# Altium integrated library linear-technology.IntLib: 60 symbols
Pins are listed as number, name and electrical type; pins without a type are passive.

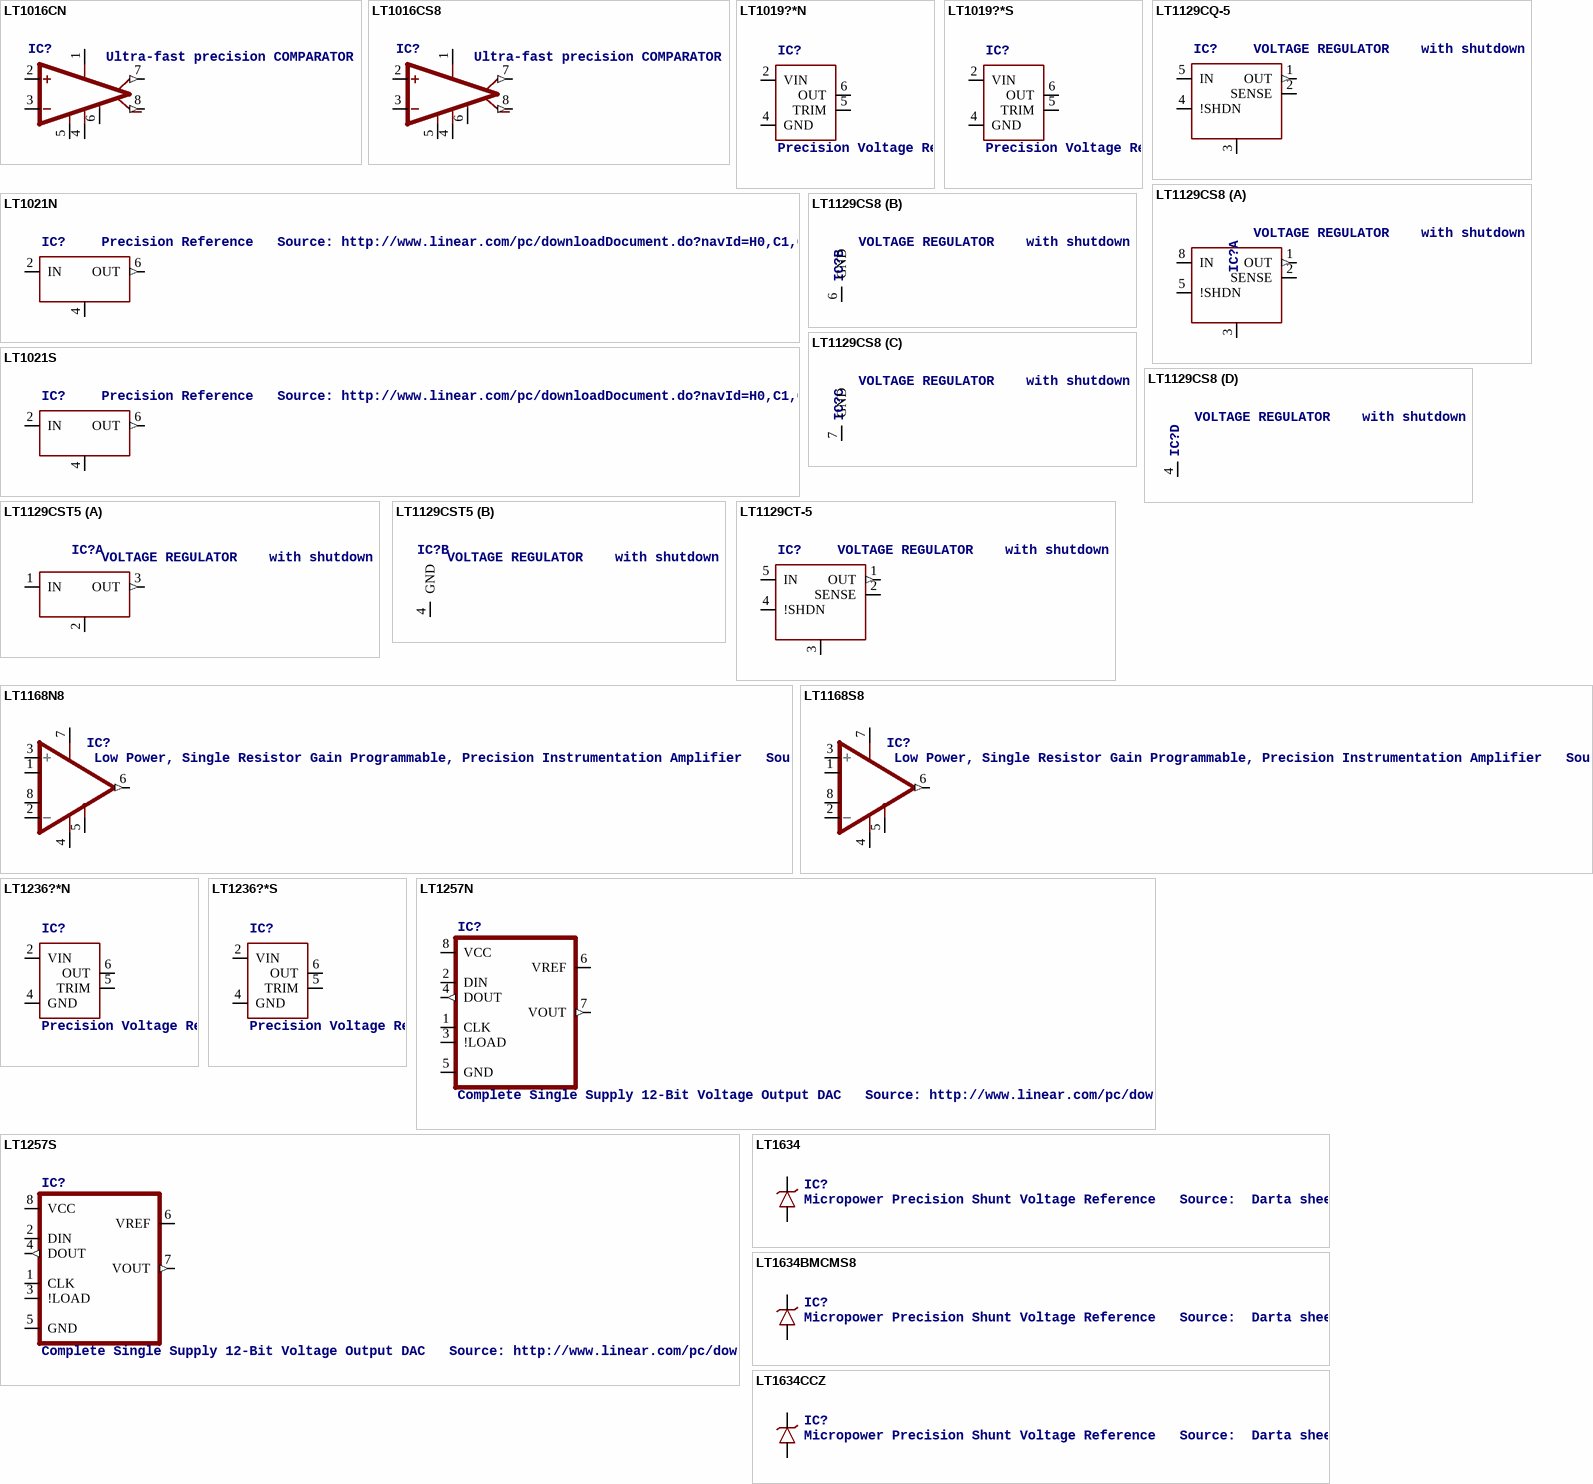
[diagram p0: symbols LT1016CN to LT1634CCZ]

## LT1016CN
designator IC?, comment Ultra-fast precision COMPARATOR
MPN: LT1016CN8; OC_FARNELL: 9559353; OC_NEWARK: 57M0852
footprint DIL08
pins: 1 V+ (power), 2 +IN, 3 -IN, 4 V- (power), 5 LA_EN, 6 GND (power), 7 OUT (out), 8 !OUT (out)

## LT1016CS8
designator IC?, comment Ultra-fast precision COMPARATOR
MPN: LT1016CS8; OC_FARNELL: 796293; OC_NEWARK: 57M0854
footprint SOIC8
pins: 1 V+ (power), 2 +IN, 3 -IN, 4 V- (power), 5 LA_EN, 6 GND (power), 7 OUT (out), 8 !OUT (out)

## LT1019?*N
designator IC?, comment Precision Voltage Reference   Source: http://www.linear.com/pc/downloadDocument.do?navId=H0,C1,C1154,C1002,C1243,P1130,D3834
MPN: LT1019CN8-5; OC_FARNELL: 4767007; OC_NEWARK: 16M4947
footprint DIL08
pins: 2 VIN, 4 GND (power), 5 TRIM, 6 OUT

## LT1019?*S
designator IC?, comment Precision Voltage Reference   Source: http://www.linear.com/pc/downloadDocument.do?navId=H0,C1,C1154,C1002,C1243,P1130,D3834
MPN: LT1019CS8-10#PBF; MPN: LT1019CS8-2.5#PBF; MPN: LT1019CS8-4.5#PBF; MPN: LT1019CS8-5#PBF; OC_FARNELL: 1556428; OC_NEWARK: 57M0925; OC_FARNELL: 9559426; OC_NEWARK: 57M0929; OC_FARNELL: 1627481; OC_NEWARK: 57M0933; OC_FARNELL: 1273426; OC_NEWARK: 57M0937
footprint SOIC8
pins: 2 VIN, 4 GND (power), 5 TRIM, 6 OUT

## LT1021N
designator IC?, comment Precision Reference   Source: http://www.linear.com/pc/downloadDocument.do?navId=H0,C1,C1010,C1603,P1229,D2805
MPN: LT1021BCN8-5#PBF; OC_FARNELL: 1273427; OC_NEWARK: 24M3927
footprint DIL08
pins: 2 IN, 4 GND (power), 6 OUT (out)

## LT1021S
designator IC?, comment Precision Reference   Source: http://www.linear.com/pc/downloadDocument.do?navId=H0,C1,C1010,C1603,P1229,D2805
MPN: LT1021DCS8-10#PBF; OC_FARNELL: 1273428; OC_NEWARK: 57M0993
footprint SOIC8
pins: 2 IN, 4 GND (power), 6 OUT (out)

## LT1129CQ-5
designator IC?, comment VOLTAGE REGULATOR    with shutdown
MPN: LT1129CQ-5#PBF; OC_FARNELL: 1663373; OC_NEWARK: 57M2058
footprint Q5-DD
pins: 1 OUT (out), 2 SENSE, 3 GND (power), 4 !SHDN, 5 IN

## LT1129CS8
designator IC?, comment VOLTAGE REGULATOR    with shutdown
MPN: LT1129CS8-5#PBF; OC_FARNELL: 1273576; OC_NEWARK: 57M2078
footprint SOIC8
part A pins: 1 OUT (out), 2 SENSE, 3 GND (power), 5 !SHDN, 8 IN
part B pins: 6 GND (power)
part C pins: 7 GND (power)
part D pins: 4 NC

## LT1129CST5
designator IC?, comment VOLTAGE REGULATOR    with shutdown
MPN: LT1129CST-5#PBF; OC_FARNELL: 1663375; OC_NEWARK: 57M2069
footprint SOT223
part A pins: 1 IN, 2 GND (power), 3 OUT (out)
part B pins: 4 GND (power)

## LT1129CT-5
designator IC?, comment VOLTAGE REGULATOR    with shutdown
MPN: LT1129CT-5#PBF; OC_FARNELL: 9560106; OC_NEWARK: 57M2088
footprint TO220-5
pins: 1 OUT (out), 2 SENSE, 3 GND (power), 4 !SHDN, 5 IN

## LT1168N8
designator IC?, comment Low Power, Single Resistor Gain Programmable, Precision Instrumentation Amplifier   SourcE: LT1168.pdf
MPN: LT1168CN8#PBF; MPN: LT1168IN8; OC_FARNELL: unknown; OC_NEWARK: unknown; OC_FARNELL: 1330587; OC_NEWARK: 57M2327; OC_NEWARK: 57M2332
footprint DIL08
pins: 1 RG@1, 2 -IN, 3 +IN, 4 V- (power), 5 REF, 6 OUT (out), 7 V+ (power), 8 RG@2

## LT1168S8
designator IC?, comment Low Power, Single Resistor Gain Programmable, Precision Instrumentation Amplifier   SourcE: LT1168.pdf
MPN: LT1168ACS8; MPN: LT1168AIS8; MPN: LT1168CS8; MPN: LT1168IS8; OC_FARNELL: unknown; OC_NEWARK: 57M2316; OC_NEWARK: 57M2322; OC_NEWARK: 57M2328; OC_NEWARK: 57M2334
footprint SOIC8
pins: 1 RG@1, 2 -IN, 3 +IN, 4 V- (power), 5 REF, 6 OUT (out), 7 V+ (power), 8 RG@2

## LT1236?*N
designator IC?, comment Precision Voltage Reference   Source: http://www.linear.com/pc/downloadDocument.do?navId=H0,C1,C1154,C1002,C1243,P1156,D2948
OC_FARNELL: unknown; OC_NEWARK: unknown
footprint DIL08
pins: 2 VIN, 4 GND (power), 5 TRIM, 6 OUT

## LT1236?*S
designator IC?, comment Precision Voltage Reference   Source: http://www.linear.com/pc/downloadDocument.do?navId=H0,C1,C1154,C1002,C1243,P1156,D2948
OC_FARNELL: unknown; OC_NEWARK: unknown
footprint SOIC8
pins: 2 VIN, 4 GND (power), 5 TRIM, 6 OUT

## LT1257N
designator IC?, comment Complete Single Supply 12-Bit Voltage Output DAC   Source: http://www.linear.com/pc/downloadDocument.do?navId=H0,C1,C1155,C1005,C1156,P1425,D3414
OC_FARNELL: unknown; OC_NEWARK: unknown
footprint DIL08
pins: 1 CLK, 2 DIN, 3 !LOAD, 4 DOUT (out), 5 GND (power), 6 VREF, 7 VOUT (out), 8 VCC (power)

## LT1257S
designator IC?, comment Complete Single Supply 12-Bit Voltage Output DAC   Source: http://www.linear.com/pc/downloadDocument.do?navId=H0,C1,C1155,C1005,C1156,P1425,D3414
OC_FARNELL: unknown; OC_NEWARK: unknown
footprint SOIC8
pins: 1 CLK, 2 DIN, 3 !LOAD, 4 DOUT (out), 5 GND (power), 6 VREF, 7 VOUT (out), 8 VCC (power)

## LT1634
designator IC?, comment Micropower Precision Shunt Voltage Reference   Source:  Darta sheet
footprint S8
pins: 4 GND, 6 VOUT

## LT1634BMCMS8
designator IC?, comment Micropower Precision Shunt Voltage Reference   Source:  Darta sheet
footprint MSOP8
pins: 4 GND, 6 VOUT

## LT1634CCZ
designator IC?, comment Micropower Precision Shunt Voltage Reference   Source:  Darta sheet
footprint TO92.PAC
pins: 1 GND, 2 VOUT

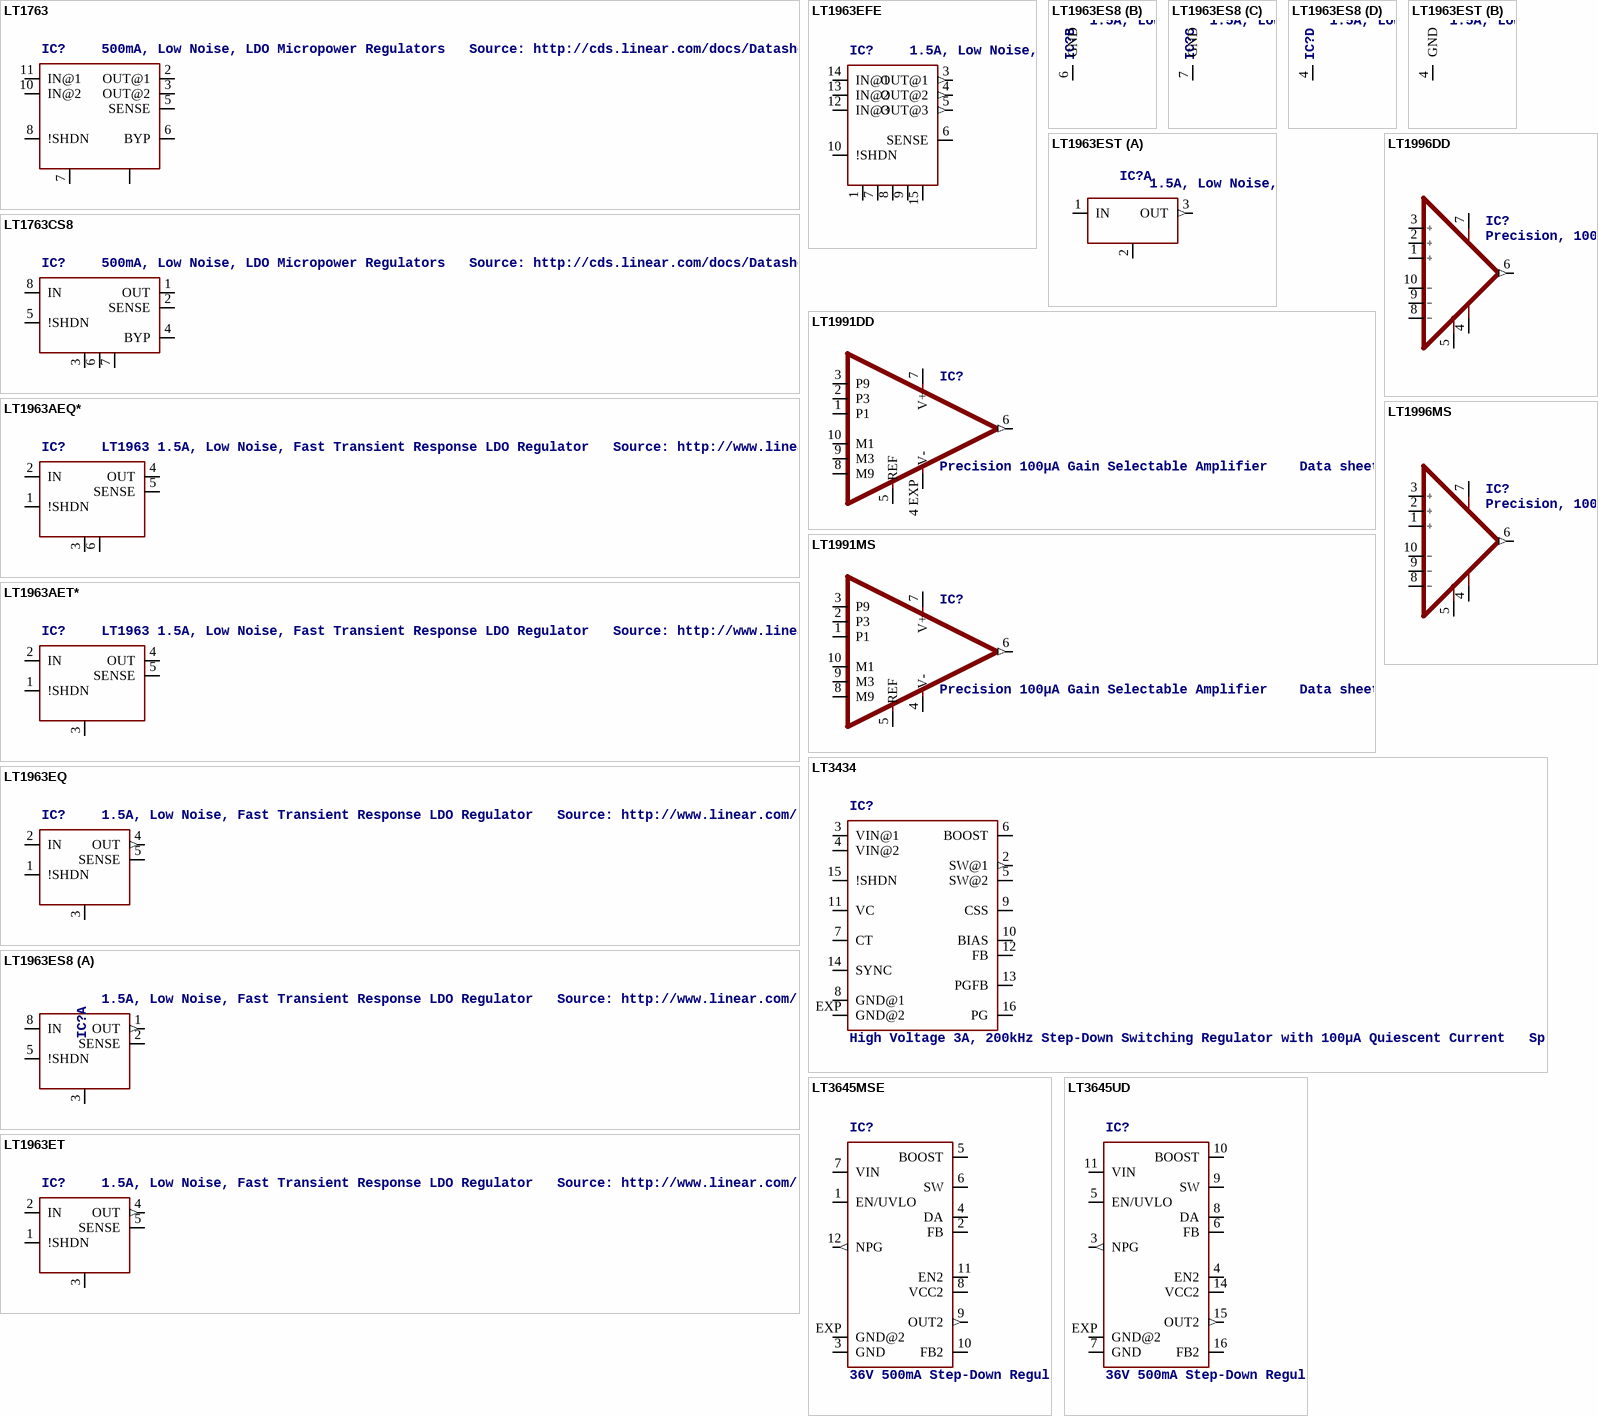
[diagram p1: symbols LT1763 to LT3645UD]

## LT1763
designator IC?, comment 500mA, Low Noise, LDO Micropower Regulators   Source: http://cds.linear.com/docs/Datasheet/1763ff.pdf
MPN: LT1763CDE; MPN: LT1763CDE-1.5; MPN: LT1763CDE-1.8; MPN: LT1763CDE-2.5; MPN: LT1763CDE-3; MPN: LT1763CDE-3.3; MPN: LT1763CDE-5; MPN: LT1763IDE#PBF; MPN: LT1763IDE-1.5#PBF; MPN: LT1763IDE-1.8#PBF; MPN: LT1763IDE-2.5#PBF; MPN: LT1763IDE-3#PBF; MPN: LT1763IDE-3.3#PBF; MPN: LT1763IDE-5#PBF; OC_FARNELL: 1273613; OC_NEWARK: 57M6014; OC_FARNELL: unknown; OC_NEWARK: 57M6015; OC_NEWARK: 57M6019; OC_NEWARK: 57M6023; OC_NEWARK: 57M6027; OC_NEWARK: 57M6028; OC_FARNELL: 1556468; OC_NEWARK: 57M6035; OC_FARNELL: 1839216; OC_NEWARK: 51R1532; OC_FARNELL: 1783317; OC_NEWARK: 51R1526; OC_FARNELL: 1783318; OC_NEWARK: 51R1527; OC_FARNELL: 1783319; OC_NEWARK: 51R1528; OC_FARNELL: 1839220; OC_NEWARK: 51R1530; OC_FARNELL: 1783320; OC_NEWARK: 51R1529; OC_FARNELL: 1839222; OC_NEWARK: 51R1531
footprint DFN12
pins: 2 OUT@1, 3 OUT@2, 5 SENSE, 6 BYP, 7 GND (power), 8 !SHDN, 10 IN@2, 11 IN@1, EXP (power)

## LT1763CS8
designator IC?, comment 500mA, Low Noise, LDO Micropower Regulators   Source: http://cds.linear.com/docs/Datasheet/1763ff.pdf
MPN: LT1763CS8-1.5; MPN: LT1763CS8-1.8; MPN: LT1763CS8-2.5; MPN: LT1763CS8-3; MPN: LT1763CS8-3.3; OC_FARNELL: 1501016; OC_NEWARK: 57M6043; OC_FARNELL: 1273615; OC_NEWARK: 57M6047; OC_FARNELL: 1273616; OC_NEWARK: 57M6051; OC_FARNELL: unknown; OC_NEWARK: 02E0014; OC_FARNELL: 1273617; OC_NEWARK: 57M6055
footprint SOIC8
pins: 1 OUT, 2 SENSE, 3 GND@1 (power), 4 BYP, 5 !SHDN, 6 GND@2 (power), 7 GND@3 (power), 8 IN

## LT1963AEQ*
designator IC?, comment LT1963 1.5A, Low Noise, Fast Transient Response LDO Regulator   Source: http://www.linear.com
MPN: LT1963AEQ; MPN: LT1963AEQ-1.5; MPN: LT1963AEQ-1.8; MPN: LT1963AEQ-2.5; MPN: LT1963AEQ-3.3; OC_FARNELL: 1273625; OC_NEWARK: 57M7427; OC_FARNELL: unknown; OC_NEWARK: 57M7428; OC_FARNELL: 1663522; OC_NEWARK: 57M7432; OC_FARNELL: 1500530; OC_NEWARK: 53K8985; OC_FARNELL: 1273626; OC_NEWARK: 57M7439
footprint Q5-DD
pins: 1 !SHDN, 2 IN, 3 GND (power), 4 OUT, 5 SENSE, 6 GND@1 (power)

## LT1963AET*
designator IC?, comment LT1963 1.5A, Low Noise, Fast Transient Response LDO Regulator   Source: http://www.linear.com
MPN: LT1963AET; MPN: LT1963AET-1.5; MPN: LT1963AET-1.8; MPN: LT1963AET-2.5; MPN: LT1963AET-3.3; OC_FARNELL: 1273631; OC_NEWARK: 57M7482; OC_FARNELL: unknown; OC_NEWARK: 57M7483; OC_FARNELL: 1273633; OC_NEWARK: 57M7485; OC_NEWARK: 57M7487; OC_NEWARK: 57M7490
footprint TO220-5
pins: 1 !SHDN, 2 IN, 3 GND (power), 4 OUT, 5 SENSE

## LT1963EFE
designator IC?, comment 1.5A, Low Noise, Fast Transient Response LDO Regulator   Source: http://cds.linear.com/docs/Datasheet/1963fc.pdf
MPN: LT1963EFE; MPN: LT1963EFE-1.5; MPN: LT1963EFE-1.8; MPN: LT1963EFE-2.5; MPN: LT1963EFE-3.3; OC_FARNELL: unknown; OC_NEWARK: 57M7494; OC_NEWARK: 57M7495; OC_NEWARK: 57M7499; OC_NEWARK: 57M7503; OC_NEWARK: 57M7507
footprint TSSOP16
pins: 1 GND@1 (power), 3 OUT@1 (out), 4 OUT@2 (out), 5 OUT@3 (out), 6 SENSE, 7 GND@2 (power), 8 GND@3 (power), 9 GND@4 (power), 10 !SHDN, 12 IN@3, 13 IN@2, 14 IN@1, 15 GND@5 (power)

## LT1963EQ
designator IC?, comment 1.5A, Low Noise, Fast Transient Response LDO Regulator   Source: http://www.linear.com/pc/downloadDocument.do?navId=H0,C3,P2222,D3148
MPN: LT1963EQ; OC_FARNELL: 1273634; OC_NEWARK: 57M7514; OC_FARNELL: unknown; OC_NEWARK: unknown
footprint Q5-DD
pins: 1 !SHDN, 2 IN, 3 GND (power), 4 OUT (out), 5 SENSE

## LT1963ES8
designator IC?, comment 1.5A, Low Noise, Fast Transient Response LDO Regulator   Source: http://www.linear.com/pc/downloadDocument.do?navId=H0,C3,P2222,D3148
MPN: LT1963ES8; MPN: LT1963ES8-1.5; MPN: LT1963ES8-1.8; MPN: LT1963ES8-2.5; MPN: LT1963ES8-3.3; OC_FARNELL: unknown; OC_NEWARK: 57M7550; OC_NEWARK: 57M7551; OC_NEWARK: 57M7555; OC_NEWARK: 57M7559; OC_NEWARK: 57M7563
footprint SOIC8
part A pins: 1 OUT (out), 2 SENSE, 3 GND (power), 5 !SHDN, 8 IN
part B pins: 6 GND (power)
part C pins: 7 GND (power)
part D pins: 4 NC

## LT1963EST
designator IC?, comment 1.5A, Low Noise, Fast Transient Response LDO Regulator   Source: http://www.linear.com/pc/downloadDocument.do?navId=H0,C3,P2222,D3148
MPN: LT1963EST-1.5; MPN: LT1963EST-1.8; MPN: LT1963EST-2.5; MPN: LT1963EST-3.3; OC_FARNELL: 1663528; OC_NEWARK: 57M7534; OC_FARNELL: 1503436; OC_NEWARK: 57M7538; OC_FARNELL: 1501031; OC_NEWARK: 57M7542; OC_FARNELL: 1501032; OC_NEWARK: 57M7546
footprint SOT223
part A pins: 1 IN, 2 GND (power), 3 OUT (out)
part B pins: 4 GND (power)

## LT1963ET
designator IC?, comment 1.5A, Low Noise, Fast Transient Response LDO Regulator   Source: http://www.linear.com/pc/downloadDocument.do?navId=H0,C3,P2222,D3148
MPN: LT1963ET; OC_FARNELL: unknown; OC_NEWARK: 57M7570; OC_NEWARK: unknown
footprint TO220-5
pins: 1 !SHDN, 2 IN, 3 GND (power), 4 OUT (out), 5 SENSE

## LT1991DD
designator IC?, comment Precision 100μA Gain Selectable Amplifier    Data sheet
footprint DFN10-3X3
pins: 1 P1, 2 P3, 3 P9, 4 EXP V- (power), 5 REF, 6 OUT (out), 7 V+ (power), 8 M9, 9 M3, 10 M1

## LT1991MS
designator IC?, comment Precision 100μA Gain Selectable Amplifier    Data sheet
footprint MSOP10
pins: 1 P1, 2 P3, 3 P9, 4 V- (power), 5 REF, 6 OUT (out), 7 V+ (power), 8 M9, 9 M3, 10 M1

## LT1996DD
designator IC?, comment Precision, 100µA Gain Selectable Amplifier   Difference Amplifier, Gain Range 9 to 117, CMRR >80dB Source: http://www.linear.com
MPN: LT1996ACDD; MPN: LT1996AIDD; MPN: LT1996CDD; MPN: LT1996IDD; OC_FARNELL: unknown; OC_NEWARK: 75M4674; OC_NEWARK: 75M4682; OC_NEWARK: 75M4690; OC_NEWARK: 75M4698
footprint DFN10-3X3
pins: 1 P9, 2 P27, 3 P81, 4 V- (power), 5 REF, 6 OUT (out), 7 V+ (power), 8 M81, 9 M27, 10 M9

## LT1996MS
designator IC?, comment Precision, 100µA Gain Selectable Amplifier   Difference Amplifier, Gain Range 9 to 117, CMRR >80dB Source: http://www.linear.com
MPN: LT1996ACMS; MPN: LT1996AIMS; MPN: LT1996CMS; MPN: LT1996IMS; OC_FARNELL: 1462130; OC_NEWARK: 75M4678; OC_FARNELL: unknown; OC_NEWARK: 75M4686; OC_NEWARK: 75M4694; OC_NEWARK: 75M4702
footprint MSOP10
pins: 1 P9, 2 P27, 3 P81, 4 V- (power), 5 REF, 6 OUT (out), 7 V+ (power), 8 M81, 9 M27, 10 M9

## LT3434
designator IC?, comment High Voltage 3A, 200kHz Step-Down Switching Regulator with 100µA Quiescent Current   Spurce: www.linear.com .. 3434fb.pdf
MPN: LT3434EFE#PBF; OC_FARNELL: 1501035; OC_NEWARK: 57M8118
footprint TSSOP16EXP
pins: 2 SW@1 (out), 3 VIN@1, 4 VIN@2, 5 SW@2, 6 BOOST, 7 CT, 8 GND@1 (power), 9 CSS, 10 BIAS, 11 VC, 12 FB, 13 PGFB, 14 SYNC, 15 !SHDN, 16 PG (oc), EXP GND@2 (power)

## LT3645MSE
designator IC?, comment 36V 500mA Step-Down Regulator and 200mA LDO   Source: http://cds.linear.com/docs/en/datasheet/3645f.pdf
footprint MSOP12
pins: 1 EN/UVLO, 2 FB, 3 GND (power), 4 DA, 5 BOOST, 6 SW (oc), 7 VIN, 8 VCC2, 9 OUT2 (out), 10 FB2, 11 EN2, 12 NPG (out), EXP GND@2 (power)

## LT3645UD
designator IC?, comment 36V 500mA Step-Down Regulator and 200mA LDO   Source: http://cds.linear.com/docs/en/datasheet/3645f.pdf
footprint QFN3X3-6
pins: 3 NPG (out), 4 EN2, 5 EN/UVLO, 6 FB, 7 GND (power), 8 DA, 9 SW (oc), 10 BOOST, 11 VIN, 14 VCC2, 15 OUT2 (out), 16 FB2, EXP GND@2 (power)

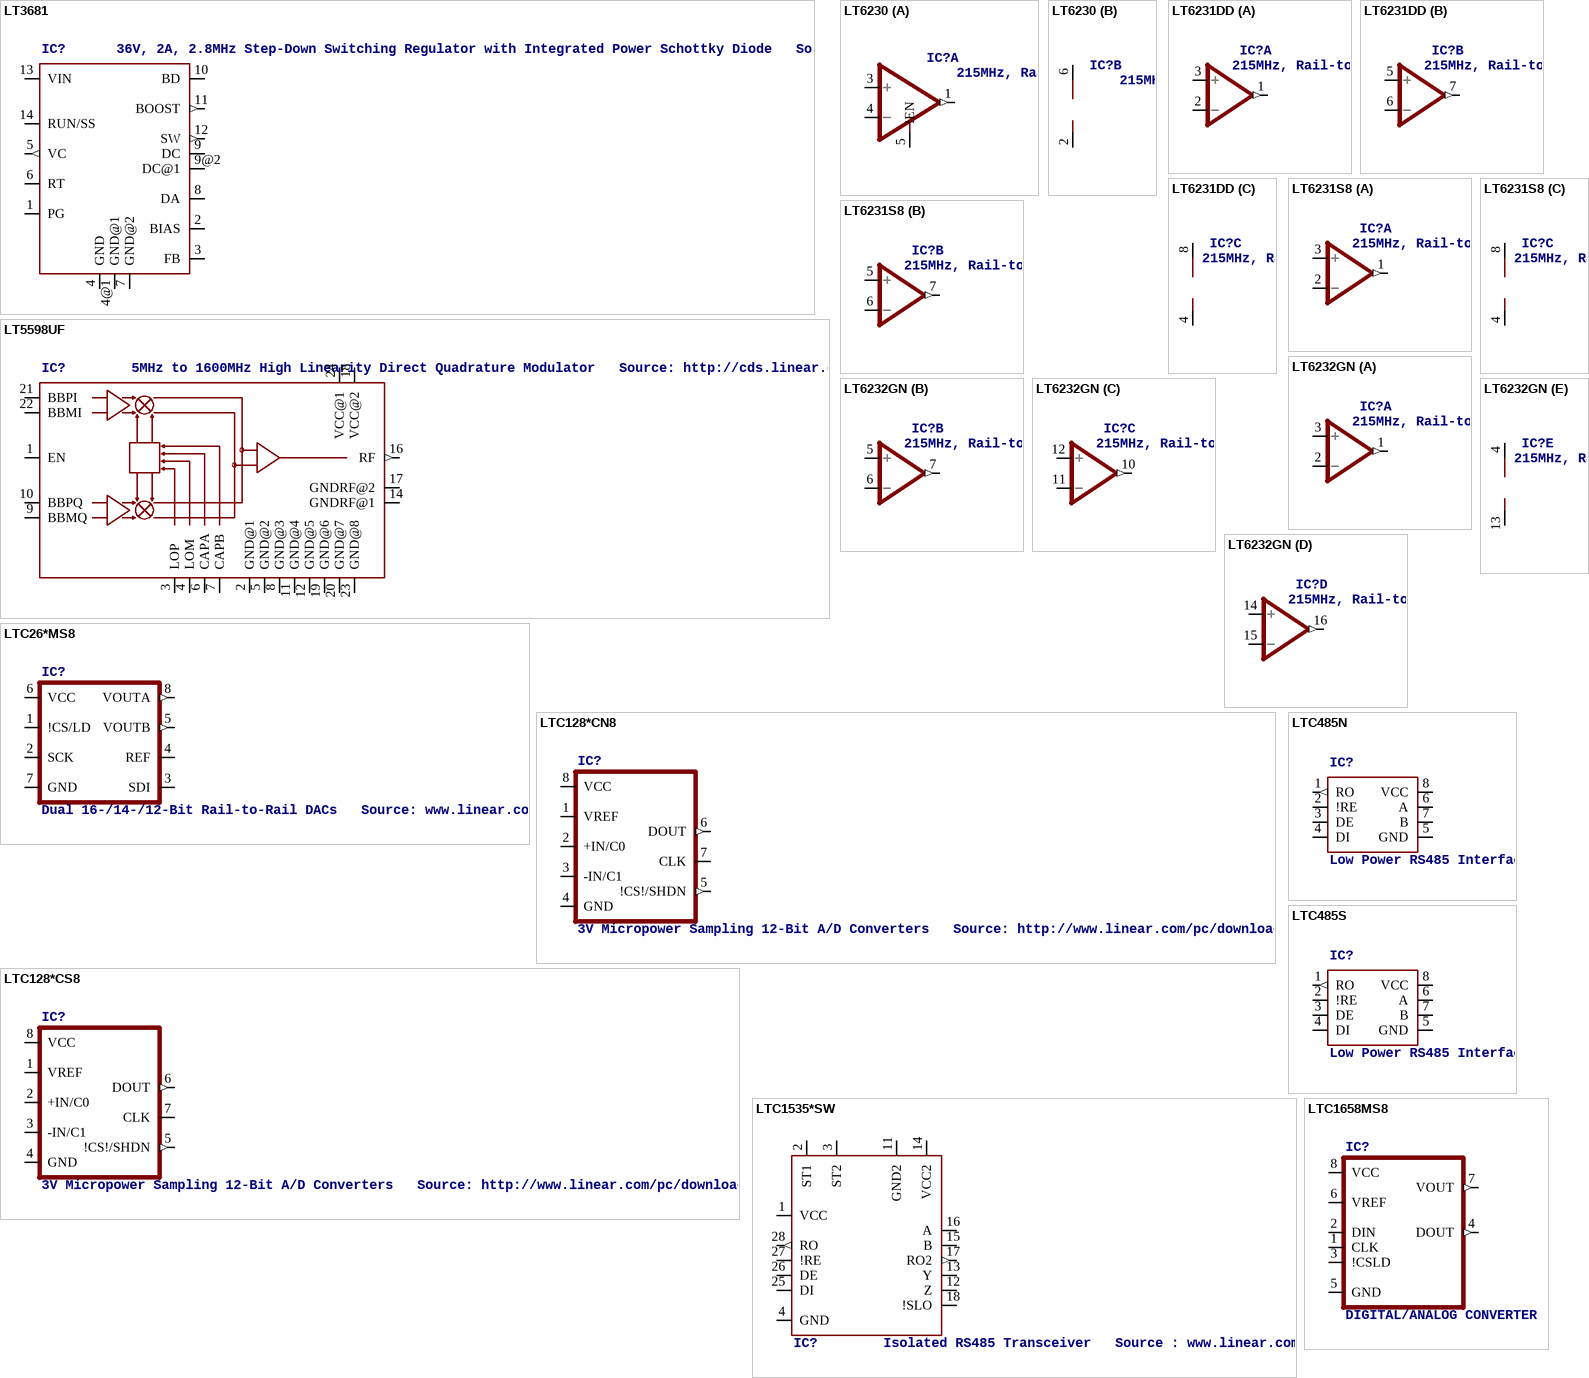
[diagram p2: symbols LT3681 to LTC1658MS8]

## LT3681
designator IC?, comment 36V, 2A, 2.8MHz Step-Down Switching Regulator with Integrated Power Schottky Diode   Source: http://www.linear.com/pc/downloadDocument.do?navId=H0,C1,C1003,C1042,C1032,C1064,P38040,D25144
MPN: LT3681EDE#PBF; OC_FARNELL: 1627603; OC_NEWARK: 57M8550
footprint DFN14-4X3DE
pins: 1 PG (oc), 2 BIAS, 3 FB, 4 GND, 4@1 GND@1, 5 VC (out), 6 RT, 7 GND@2, 8 DA, 9 DC, 9@2 DC@1, 10 BD, 11 BOOST (out), 12 SW (out), 13 VIN, 14 RUN/SS

## LT5598UF
designator IC?, comment 5MHz to 1600MHz High Linearity Direct Quadrature Modulator   Source: http://cds.linear.com/docs/Datasheet/5598f.pdf
OC_FARNELL: unknown; OC_NEWARK: unknown
footprint QFN24-4X4
pins: 1 EN, 2 GND@1 (power), 3 LOP, 4 LOM, 5 GND@2 (power), 6 CAPA, 7 CAPB, 8 GND@3 (power), 9 BBMQ, 10 BBPQ, 11 GND@4 (power), 12 GND@5 (power), 14 GNDRF@1 (power), 16 RF (out), 17 GNDRF@2 (power), 18 VCC@2 (power), 19 GND@6 (power), 20 GND@7 (power), 21 BBPI, 22 BBMI, 23 GND@8 (power), 24 VCC@1 (power)

## LT6230
designator IC?, comment 215MHz, Rail-to-Rail Output, 1.1nV/Hz, 3.5mA Op Amp   Source: http://cds.linear.com/docs/Datasheet/623012fb.pdf
MPN: LT6230CS6#TR; MPN: LT6230CS6-10#TR; MPN: LT6230IS6#TR; MPN: LT6230IS6-10#TR; OC_FARNELL: 1663845; OC_NEWARK: 57M9332; OC_FARNELL: 1663846; OC_NEWARK: 57M9328; OC_FARNELL: unknown; OC_NEWARK: 57M9340; OC_NEWARK: 57M9336
footprint TSOT23-6
part A pins: 1 OUT (out), 3 +IN, 4 -IN, 5 !EN
part B pins: 2 V- (power), 6 V+ (power)

## LT6231DD
designator IC?, comment 215MHz, Rail-to-Rail Output, 1.1nV/Hz, 3.5mA Op Amp   Source: http://cds.linear.com/docs/Datasheet/623012fb.pdf
MPN: LT6231CDD; MPN: LT6231IDD; OC_FARNELL: unknown; OC_NEWARK: 57M9344; OC_NEWARK: 57M9352
footprint DFN8-3X3
part A pins: 1 OUT (out), 2 -IN, 3 +IN
part B pins: 5 +IN, 6 -IN, 7 OUT (out)
part C pins: 4 V- (power), 8 V+ (power)

## LT6231S8
designator IC?, comment 215MHz, Rail-to-Rail Output, 1.1nV/Hz, 3.5mA Op Amp   Source: http://cds.linear.com/docs/Datasheet/623012fb.pdf
MPN: LT6231CS8; MPN: LT6231IS8; OC_FARNELL: 1330763; OC_NEWARK: 57M9348; OC_FARNELL: unknown; OC_NEWARK: 57M9356
footprint S8
part A pins: 1 OUT (out), 2 -IN, 3 +IN
part B pins: 5 +IN, 6 -IN, 7 OUT (out)
part C pins: 4 V- (power), 8 V+ (power)

## LT6232GN
designator IC?, comment 215MHz, Rail-to-Rail Output, 1.1nV/Hz, 3.5mA Op Amp   Source: http://cds.linear.com/docs/Datasheet/623012fb.pdf
MPN: LT6232CGN; MPN: LT6232IGN; OC_FARNELL: unknown; OC_NEWARK: 57M9360; OC_NEWARK: 57M9364
footprint SSOP16
part A pins: 1 OUT (out), 2 -IN, 3 +IN
part B pins: 5 +IN, 6 -IN, 7 OUT (out)
part C pins: 10 OUT (out), 11 -IN, 12 +IN
part D pins: 14 +IN, 15 -IN, 16 OUT (out)
part E pins: 4 V+ (power), 13 V- (power)

## LTC26*MS8
designator IC?, comment Dual 16-/14-/12-Bit Rail-to-Rail DACs   Source: www.linear.com
MPN: LTC2602CMS8; MPN: LTC2602IMS8; MPN: LTC2612CMS8; MPN: LTC2612IMS8; MPN: LTC2622CMS8; MPN: LTC2622IMS8; OC_FARNELL: 1330944; OC_NEWARK: 56M5818; OC_FARNELL: 1663694; OC_NEWARK: 56M5822; OC_FARNELL: 1330947; OC_NEWARK: 56M5926; OC_FARNELL: unknown; OC_NEWARK: 56M5930; OC_FARNELL: 1330954; OC_NEWARK: 56M6034; OC_NEWARK: 56M6038
footprint MSOP8
pins: 1 !CS/LD, 2 SCK, 3 SDI, 4 REF, 5 VOUTB (out), 6 VCC (power), 7 GND (power), 8 VOUTA (out)

## LTC128*CN8
designator IC?, comment 3V Micropower Sampling 12-Bit A/D Converters   Source: http://www.linear.com/pc/downloadDocument.do?navId=H0,C1,C1155,C1001,C1158,P1489,D3463
MPN: LTC1285CN8; MPN: LTC1288CN8; OC_FARNELL: 1330820; OC_NEWARK: 56M0031; OC_FARNELL: 1330821; OC_NEWARK: 56M0057
footprint DIL08
pins: 1 VREF, 2 +IN/C0, 3 -IN/C1, 4 GND (power), 5 !CS!/SHDN (out), 6 DOUT (out), 7 CLK, 8 VCC (power)

## LTC128*CS8
designator IC?, comment 3V Micropower Sampling 12-Bit A/D Converters   Source: http://www.linear.com/pc/downloadDocument.do?navId=H0,C1,C1155,C1001,C1158,P1489,D3463
MPN: LTC1285CS8; MPN: LTC1288CS8; OC_FARNELL: 4767585; OC_NEWARK: 56M0033; OC_FARNELL: 9561013; OC_NEWARK: 56M0059
footprint SOIC8
pins: 1 VREF, 2 +IN/C0, 3 -IN/C1, 4 GND (power), 5 !CS!/SHDN (out), 6 DOUT (out), 7 CLK, 8 VCC (power)

## LTC485N
designator IC?, comment Low Power RS485 Interface Transceiver   Source: http://www.linear.com/pc/downloadDocument.do?navId=H0,C1,C1007,C1017,P2064,D1718
OC_FARNELL: unknown; OC_NEWARK: unknown
footprint DIL08
pins: 1 RO (out), 2 !RE, 3 DE, 4 DI, 5 GND, 6 A, 7 B, 8 VCC

## LTC485S
designator IC?, comment Low Power RS485 Interface Transceiver   Source: http://www.linear.com/pc/downloadDocument.do?navId=H0,C1,C1007,C1017,P2064,D1718
OC_FARNELL: unknown; OC_NEWARK: unknown
footprint SOIC8
pins: 1 RO (out), 2 !RE, 3 DE, 4 DI, 5 GND, 6 A, 7 B, 8 VCC

## LTC1535*SW
designator IC?, comment Isolated RS485 Transceiver   Source : www.linear.com
MPN: LTC1535CSW; MPN: LTC1535ISW; OC_FARNELL: 1609802; OC_NEWARK: 56M1820; OC_FARNELL: 1498465; OC_NEWARK: 56M1824
footprint SO28SW
pins: 1 VCC, 2 ST1, 3 ST2, 4 GND, 11 GND2, 12 Z (hiz), 13 Y (hiz), 14 VCC2, 15 B, 16 A, 17 RO2 (out), 18 !SLO, 25 DI, 26 DE, 27 !RE, 28 RO (out)

## LTC1658MS8
designator IC?, comment DIGITAL/ANALOG CONVERTER
OC_FARNELL: unknown; OC_NEWARK: unknown
footprint MSOP8
pins: 1 CLK, 2 DIN, 3 !CSLD, 4 DOUT (out), 5 GND (power), 6 VREF, 7 VOUT (out), 8 VCC (power)

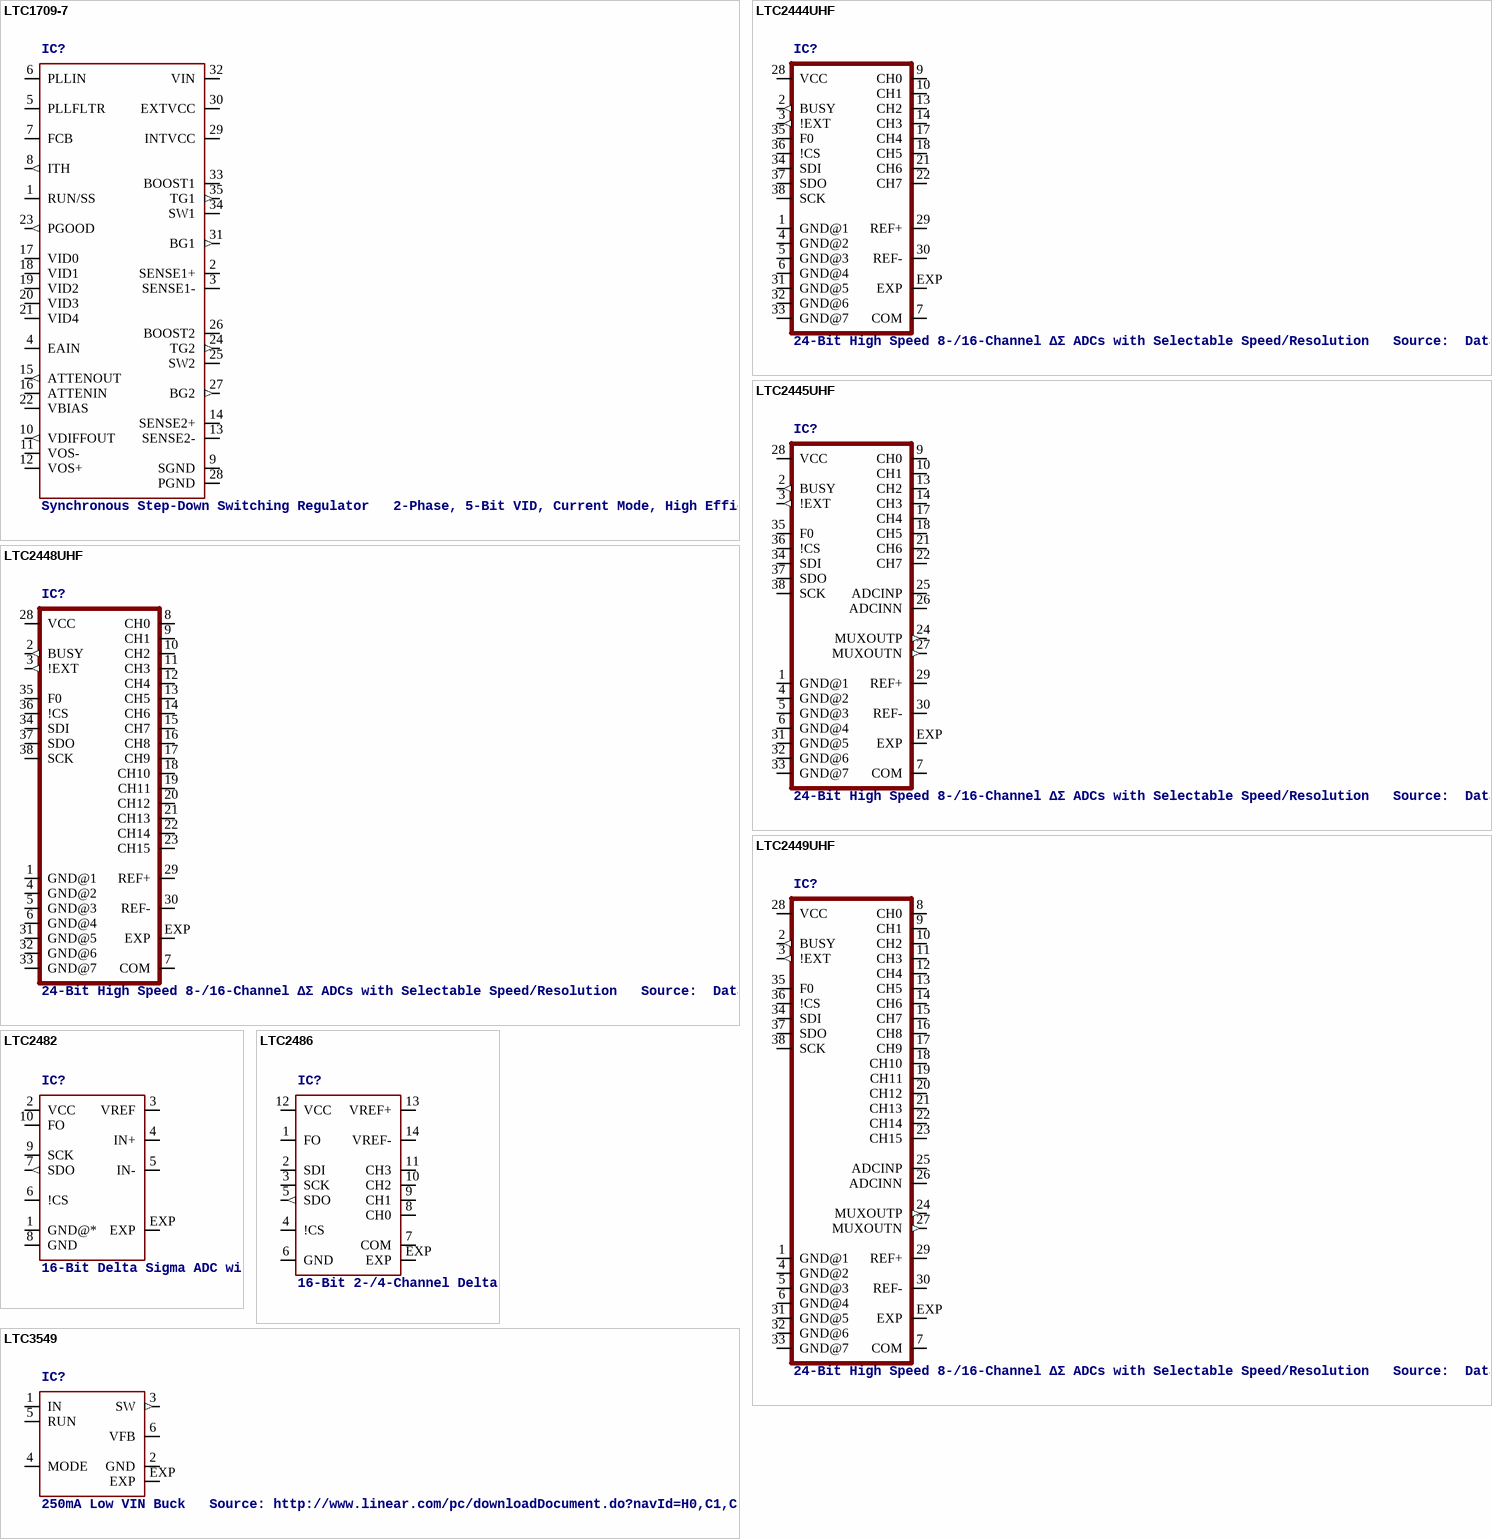
[diagram p3: symbols LTC1709-7 to LTC3549]

## LTC1709-7
designator IC?, comment Synchronous Step-Down Switching Regulator   2-Phase, 5-Bit VID, Current Mode, High Efficiency Source: www.linear.com/pc/downloadDocument.do?navId=H0,C1,C1003,C1042,C1143,C1083,P1964,D1133
OC_FARNELL: unknown; OC_NEWARK: unknown
footprint SSOP36
pins: 1 RUN/SS, 2 SENSE1+, 3 SENSE1-, 4 EAIN, 5 PLLFLTR, 6 PLLIN, 7 FCB, 8 ITH (out), 9 SGND (power), 10 VDIFFOUT (out), 11 VOS-, 12 VOS+, 13 SENSE2-, 14 SENSE2+, 15 ATTENOUT (out), 16 ATTENIN, 17 VID0, 18 VID1, 19 VID2, 20 VID3, 21 VID4, 22 VBIAS, 23 PGOOD (out), 24 TG2 (out), 25 SW2, 26 BOOST2, 27 BG2 (out), 28 PGND, 29 INTVCC, 30 EXTVCC, 31 BG1 (out), 32 VIN, 33 BOOST1, 34 SW1, 35 TG1 (out), 36 NC

## LTC2444UHF
designator IC?, comment 24-Bit High Speed 8-/16-Channel ΔΣ ADCs with Selectable Speed/Resolution   Source:  Data sheet
footprint QFN38-5X7
pins: 1 GND@1 (power), 2 BUSY (out), 3 !EXT (out), 4 GND@2 (power), 5 GND@3 (power), 6 GND@4 (power), 7 COM (power), 9 CH0, 10 CH1, 13 CH2, 14 CH3, 17 CH4, 18 CH5, 21 CH6, 22 CH7, 28 VCC (power), 29 REF+, 30 REF-, 31 GND@5 (power), 32 GND@6 (power), 33 GND@7 (power), 34 SDI, 35 F0, 36 !CS, 37 SDO (hiz), 38 SCK, EXP

## LTC2445UHF
designator IC?, comment 24-Bit High Speed 8-/16-Channel ΔΣ ADCs with Selectable Speed/Resolution   Source:  Data sheet
footprint QFN38-5X7
pins: 1 GND@1 (power), 2 BUSY (out), 3 !EXT (out), 4 GND@2 (power), 5 GND@3 (power), 6 GND@4 (power), 7 COM (power), 9 CH0, 10 CH1, 13 CH2, 14 CH3, 17 CH4, 18 CH5, 21 CH6, 22 CH7, 24 MUXOUTP (out), 25 ADCINP, 26 ADCINN, 27 MUXOUTN (out), 28 VCC (power), 29 REF+, 30 REF-, 31 GND@5 (power), 32 GND@6 (power), 33 GND@7 (power), 34 SDI, 35 F0, 36 !CS, 37 SDO (hiz), 38 SCK, EXP

## LTC2448UHF
designator IC?, comment 24-Bit High Speed 8-/16-Channel ΔΣ ADCs with Selectable Speed/Resolution   Source:  Data sheet
footprint QFN38-5X7
pins: 1 GND@1 (power), 2 BUSY (out), 3 !EXT (out), 4 GND@2 (power), 5 GND@3 (power), 6 GND@4 (power), 7 COM (power), 8 CH0, 9 CH1, 10 CH2, 11 CH3, 12 CH4, 13 CH5, 14 CH6, 15 CH7, 16 CH8, 17 CH9, 18 CH10, 19 CH11, 20 CH12, 21 CH13, 22 CH14, 23 CH15, 28 VCC (power), 29 REF+, 30 REF-, 31 GND@5 (power), 32 GND@6 (power), 33 GND@7 (power), 34 SDI, 35 F0, 36 !CS, 37 SDO (hiz), 38 SCK, EXP

## LTC2449UHF
designator IC?, comment 24-Bit High Speed 8-/16-Channel ΔΣ ADCs with Selectable Speed/Resolution   Source:  Data sheet
footprint QFN38-5X7
pins: 1 GND@1 (power), 2 BUSY (out), 3 !EXT (out), 4 GND@2 (power), 5 GND@3 (power), 6 GND@4 (power), 7 COM (power), 8 CH0, 9 CH1, 10 CH2, 11 CH3, 12 CH4, 13 CH5, 14 CH6, 15 CH7, 16 CH8, 17 CH9, 18 CH10, 19 CH11, 20 CH12, 21 CH13, 22 CH14, 23 CH15, 24 MUXOUTP (out), 25 ADCINP, 26 ADCINN, 27 MUXOUTN (out), 28 VCC (power), 29 REF+, 30 REF-, 31 GND@5 (power), 32 GND@6 (power), 33 GND@7 (power), 34 SDI, 35 F0, 36 !CS, 37 SDO (hiz), 38 SCK, EXP

## LTC2482
designator IC?, comment 16-Bit Delta Sigma ADC with Easy Drive Input Current Cancellation   Source: http://www.linear.com/pc/downloadDocument.do?navId=H0,C1,C1155,C1001,C1152,P11253,D7998
OC_FARNELL: 1330940; OC_NEWARK: unknown
footprint DFN10-3X3
pins: 1 GND@* (power), 2 VCC (power), 3 VREF, 4 IN+, 5 IN-, 6 !CS, 7 SDO (out), 8 GND (power), 9 SCK, 10 FO, EXP

## LTC2486
designator IC?, comment 16-Bit 2-/4-Channel Delta Sigma ADC   with PGA and Easy Drive Input Current Cancellation Source: http://www.linear.com/pc/downloadDocument.do?navId=H0,C1,C1155,C1001,C1152,P36532,D19318
OC_FARNELL: unknown; OC_NEWARK: unknown
footprint DFN14-4X3
pins: 1 FO, 2 SDI, 3 SCK, 4 !CS, 5 SDO (out), 6 GND (power), 7 COM (power), 8 CH0, 9 CH1, 10 CH2, 11 CH3, 12 VCC (power), 13 VREF+, 14 VREF-, EXP

## LTC3549
designator IC?, comment 250mA Low VIN Buck   Source: http://www.linear.com/pc/downloadDocument.do?navId=H0,C1,C1003,C1042,C1032,C1063,P26952,D16357
MPN: LTC3549EDCB#TRMPBF; OC_FARNELL: 1715241; OC_NEWARK: 56M8010
footprint DFN6-2X3
pins: 1 IN, 2 GND (power), 3 SW (out), 4 MODE, 5 RUN, 6 VFB, EXP

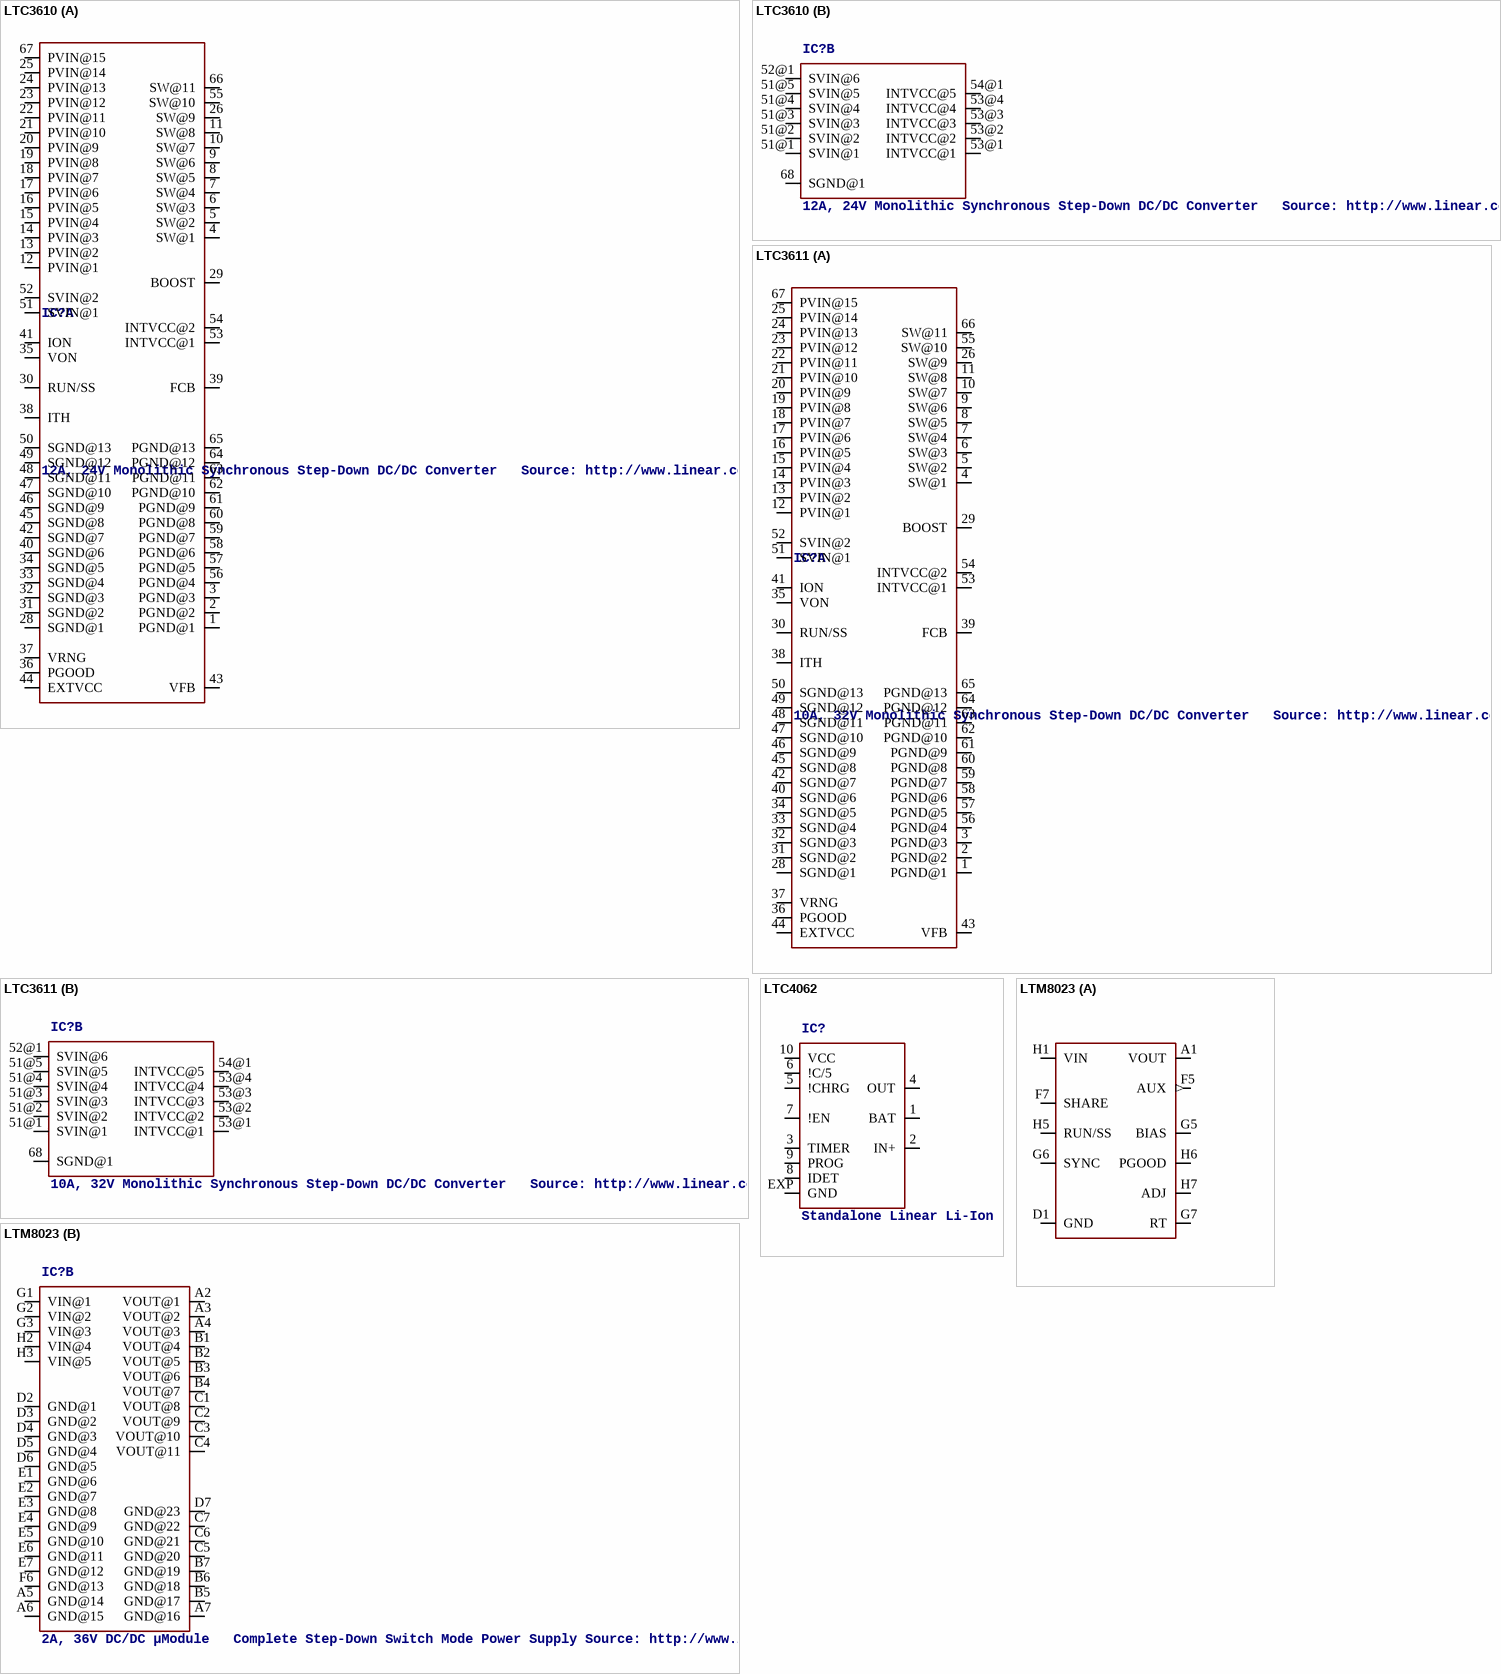
[diagram p4: symbols LTC3610 to LTM8023]

## LTC3610
designator IC?, comment 12A, 24V Monolithic Synchronous Step-Down DC/DC Converter   Source: http://www.linear.com ..
MPN: LTC3610EWP#PBF; OC_FARNELL: 1536304; OC_NEWARK: 56M8026
footprint QFN64-9X9
part A pins: 1 PGND@1 (power), 2 PGND@2 (power), 3 PGND@3 (power), 4 SW@1, 5 SW@2, 6 SW@3, 7 SW@4, 8 SW@5, 9 SW@6, 10 SW@7, 11 SW@8, 12 PVIN@1 (power), 13 PVIN@2 (power), 14 PVIN@3 (power), 15 PVIN@4 (power), 16 PVIN@5 (power), 17 PVIN@6 (power), 18 PVIN@7 (power), 19 PVIN@8 (power), 20 PVIN@9 (power), 21 PVIN@10 (power), 22 PVIN@11 (power), 23 PVIN@12 (power), 24 PVIN@13 (power), 25 PVIN@14 (power), 26 SW@9, 28 SGND@1 (power), 29 BOOST, 30 RUN/SS, 31 SGND@2 (power), 32 SGND@3 (power), 33 SGND@4 (power), 34 SGND@5 (power), 35 VON, 36 PGOOD (oc), 37 VRNG, 38 ITH, 39 FCB, 40 SGND@6 (power), 41 ION, 42 SGND@7 (power), 43 VFB, 44 EXTVCC, 45 SGND@8 (power), 46 SGND@9 (power), 47 SGND@10 (power), 48 SGND@11 (power), 49 SGND@12 (power), 50 SGND@13 (power), 51 SVIN@1, 52 SVIN@2, 53 INTVCC@1 (power), 54 INTVCC@2 (power), 55 SW@10, 56 PGND@4 (power), 57 PGND@5 (power), 58 PGND@6 (power), 59 PGND@7 (power), 60 PGND@8 (power), 61 PGND@9 (power), 62 PGND@10 (power), 63 PGND@11 (power), 64 PGND@12 (power), 65 PGND@13 (power), 66 SW@11, 67 PVIN@15 (power)
part B pins: 51@1 SVIN@1, 51@2 SVIN@2, 51@3 SVIN@3, 51@4 SVIN@4, 51@5 SVIN@5, 52@1 SVIN@6, 53@1 INTVCC@1 (power), 53@2 INTVCC@2 (power), 53@3 INTVCC@3 (power), 53@4 INTVCC@4 (power), 54@1 INTVCC@5 (power), 68 SGND@1 (power)

## LTC3611
designator IC?, comment 10A, 32V Monolithic Synchronous Step-Down DC/DC Converter   Source: http://www.linear.com ..
OC_FARNELL: unknown; OC_NEWARK: unknown
footprint QFN64-9X9
part A pins: 1 PGND@1 (power), 2 PGND@2 (power), 3 PGND@3 (power), 4 SW@1, 5 SW@2, 6 SW@3, 7 SW@4, 8 SW@5, 9 SW@6, 10 SW@7, 11 SW@8, 12 PVIN@1 (power), 13 PVIN@2 (power), 14 PVIN@3 (power), 15 PVIN@4 (power), 16 PVIN@5 (power), 17 PVIN@6 (power), 18 PVIN@7 (power), 19 PVIN@8 (power), 20 PVIN@9 (power), 21 PVIN@10 (power), 22 PVIN@11 (power), 23 PVIN@12 (power), 24 PVIN@13 (power), 25 PVIN@14 (power), 26 SW@9, 28 SGND@1 (power), 29 BOOST, 30 RUN/SS, 31 SGND@2 (power), 32 SGND@3 (power), 33 SGND@4 (power), 34 SGND@5 (power), 35 VON, 36 PGOOD (oc), 37 VRNG, 38 ITH, 39 FCB, 40 SGND@6 (power), 41 ION, 42 SGND@7 (power), 43 VFB, 44 EXTVCC, 45 SGND@8 (power), 46 SGND@9 (power), 47 SGND@10 (power), 48 SGND@11 (power), 49 SGND@12 (power), 50 SGND@13 (power), 51 SVIN@1, 52 SVIN@2, 53 INTVCC@1 (power), 54 INTVCC@2 (power), 55 SW@10, 56 PGND@4 (power), 57 PGND@5 (power), 58 PGND@6 (power), 59 PGND@7 (power), 60 PGND@8 (power), 61 PGND@9 (power), 62 PGND@10 (power), 63 PGND@11 (power), 64 PGND@12 (power), 65 PGND@13 (power), 66 SW@11, 67 PVIN@15 (power)
part B pins: 51@1 SVIN@1, 51@2 SVIN@2, 51@3 SVIN@3, 51@4 SVIN@4, 51@5 SVIN@5, 52@1 SVIN@6, 53@1 INTVCC@1 (power), 53@2 INTVCC@2 (power), 53@3 INTVCC@3 (power), 53@4 INTVCC@4 (power), 54@1 INTVCC@5 (power), 68 SGND@1 (power)

## LTC4062
designator IC?, comment Standalone Linear Li-Ion Battery Charger with Micropower Comparator   Source: http://www.linear.com .. 4062fa.pdf
MPN: LTC4062EDD#PBF; OC_FARNELL: 1648037; OC_NEWARK: 58M0900
footprint DFN10-3X3
pins: 1 BAT, 2 IN+, 3 TIMER, 4 OUT (oc), 5 !CHRG (oc), 6 !C/5, 7 !EN, 8 IDET, 9 PROG, 10 VCC (power), EXP GND (power)

## LTM8023
designator IC?, comment 2A, 36V DC/DC µModule   Complete Step-Down Switch Mode Power Supply Source: http://www.linear.com/pc/downloadDocument.do?name=8023ff.pdf
MPN: LTM8023IV#PBF; OC_FARNELL: 1799827; OC_NEWARK: 02P7640
footprint LGA50
part A pins: A1 VOUT (power), D1 GND (power), F5 AUX (out), F7 SHARE, G5 BIAS, G6 SYNC, G7 RT, H1 VIN (power), H5 RUN/SS, H6 PGOOD (oc), H7 ADJ
part B pins: A2 VOUT@1 (power), A3 VOUT@2 (power), A4 VOUT@3 (power), A5 GND@14 (power), A6 GND@15 (power), A7 GND@16 (power), B1 VOUT@4 (power), B2 VOUT@5 (power), B3 VOUT@6 (power), B4 VOUT@7 (power), B5 GND@17 (power), B6 GND@18 (power), B7 GND@19 (power), C1 VOUT@8 (power), C2 VOUT@9 (power), C3 VOUT@10 (power), C4 VOUT@11 (power), C5 GND@20 (power), C6 GND@21 (power), C7 GND@22 (power), D2 GND@1 (power), D3 GND@2 (power), D4 GND@3 (power), D5 GND@4 (power), D6 GND@5 (power), D7 GND@23 (power), E1 GND@6 (power), E2 GND@7 (power), E3 GND@8 (power), E4 GND@9 (power), E5 GND@10 (power), E6 GND@11 (power), E7 GND@12 (power), F6 GND@13 (power), G1 VIN@1 (power), G2 VIN@2 (power), G3 VIN@3 (power), H2 VIN@4 (power), H3 VIN@5 (power)